# Altium footprint library DT.PcbLib: 10 footprints
Each footprint in its own frame and in the unit in brackets; x right, y up, seen from the top. Pads: shape width x height; smd on the part's side, far side on the other; paste and mask are expansions set on the pad; w line width, h text height; cw(c..) or ccw(c..) is an arc to the next point about the centre after c.
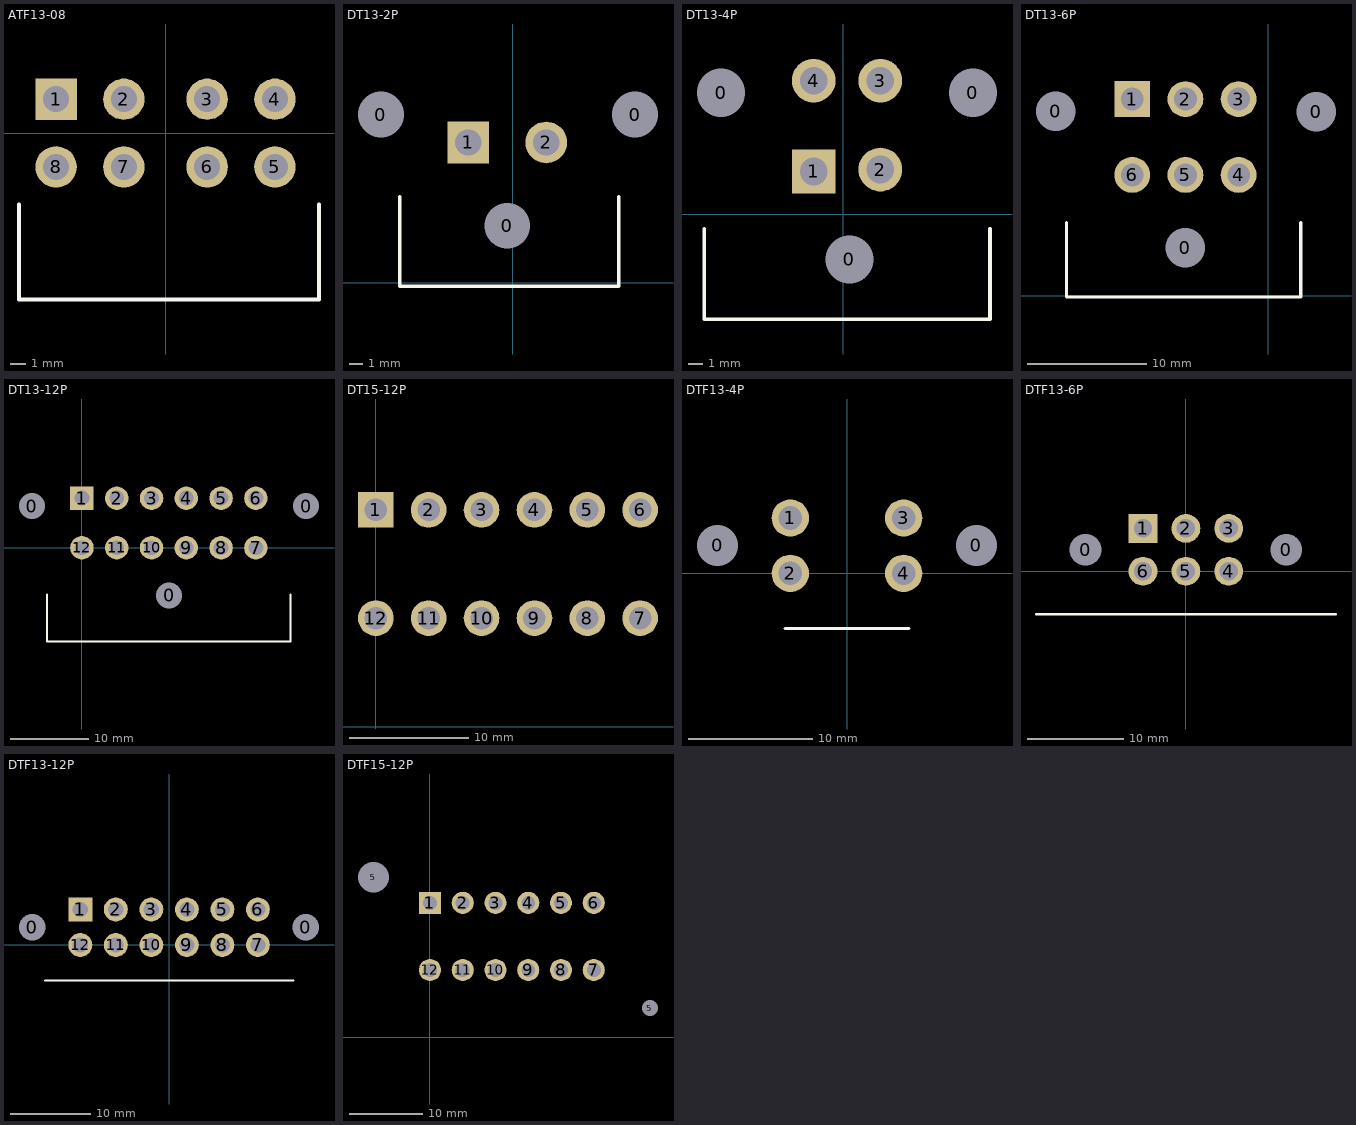
[diagram p0: the footprints below, top view; thin cyan lines are the x and y axes]

## ATF13-08 [mm]
pads (8):
  rect 2.7x2.7 hole 1.7: 1(-7.145,2.21)
  round 2.7 hole 1.7: 2(-2.725,2.21) 3(2.725,2.21) 4(7.145,2.21) 5(7.145,-2.21) 6(2.725,-2.21) 7(-2.725,-2.21) 8(-7.145,-2.21)
Top Overlay:
  lines w0.254: -9.571,-4.671 -9.571,-10.871 10.029,-10.871 10.029,-4.671
3D body "ATF13-08PB-BM13.stp": height 23.66, standoff -2.89, extent -18.375,-25.4 18.375,4.5

## DT13-2P [mm]
pads (5):
  round 3 hole 3.3 unplated: 0(-9.5,12.1) 0(-0.4,4.1) 0(8.8,12.1)
  rect 3x3 hole 1.9: 1(-3.2,10.1)
  round 3 hole 1.9: 2(2.4,10.1)
Top Overlay:
  lines w0.254: -8.128,6.2 -8.128,-0.254 7.62,-0.254 7.62,6.2
3D body "c-dt13-2p-99-3d.stp": height 28.72, standoff -2.04, extent -18.053,-19.968 17.253,16.1

## DT13-4P [mm]
pads (7):
  round 3 hole 3.3 unplated: 0(-8.382,8.318) 0(0.416,-3.112) 0(8.89,8.318)
  rect 3x3 hole 1.9: 1(-2.032,2.921)
  round 3 hole 1.9: 2(2.54,3.048) 3(2.54,9.144) 4(-2.032,9.144)
Top Overlay:
  lines w0.254: -9.534,-1.012 -9.534,-7.212 10.066,-7.212 10.066,-1.012
3D body "c-dt13-4p-c-3d.stp": height 35.63, standoff -2.96, extent -20.417,-27.178 17.937,12.319

## DT13-6P [mm]
pads (9):
  round 3 hole 3.3 unplated: 0(-17.805,15.43) 0(-6.95,4) 0(4,15.4)
  rect 3x3 hole 1.9: 1(-11.4,16.45)
  round 3 hole 1.9: 2(-6.95,16.45) 3(-2.5,16.45) 4(-2.5,10.1) 5(-6.95,10.1) 6(-11.4,10.1)
Top Overlay:
  lines w0.254: -16.9,6.1 -16.9,-0.1 2.7,-0.1 2.7,6.1
3D body "c-dt13-6p-99-3d.stp": height 35.63, standoff -2.96, extent -29.899,-19.897 12.899,19.6

## DT13-12P [mm]
height 35
pads (15):
  round 3 hole 3.3 unplated: 0(-6.405,5.33) 0(11.135,-6.1) 0(28.675,5.33)
  rect 3x3 hole 1.9: 1(0,6.35)
  round 3 hole 1.9: 2(4.45,6.35) 3(8.9,6.35) 4(13.35,6.35) 5(17.8,6.35) 6(22.25,6.35) 7(22.25,0) 8(17.8,0) 9(13.35,0) 10(8.9,0) 11(4.45,0) 12(0,0)
Top Overlay:
  lines w0.254: -4.45,-6 -4.45,-12 26.7,-12 26.7,-6
3D body "c-dt13-12pa-b016-99-3d.stp": height 35.63, standoff -2.96, extent -18.604,-34.696 40.604,9.5

## DT15-12P [mm]
height 35
pads (12):
  rect 3x3 hole 1.9: 1(0,18.24)
  round 3 hole 1.9: 2(4.45,18.24) 3(8.9,18.24) 4(13.35,18.24) 5(17.8,18.24) 6(22.25,18.24) 7(22.25,9.12) 8(17.8,9.12) 9(13.35,9.12) 10(8.9,9.12) 11(4.45,9.12) 12(0,9.12)
3D body "c-dt15-12pa-b016-99-3d.stp": height 36, standoff -1.92, extent -18.504,-3.927 40.704,31.328

## DTF13-4P [mm]
pads (6):
  round 3 hole 3.3 unplated: 0(-10.415,2.25) 0(10.415,2.25)
  round 3 hole 1.9: 1(-4.56,4.45) 2(-4.56,0) 3(4.56,4.45) 4(4.56,0)
Top Overlay:
  lines w0.254: -5,-4.45 5,-4.45
3D body "c-dtf13-4p-a-3d.stp": height 23.65, standoff -2.92, extent -13.68,-25.732 13.498,7.732

## DTF13-6P [mm]
pads (8):
  round 3 hole 3.3 unplated: 0(-10.41,2.225) 0(10.41,2.225)
  rect 3x3 hole 1.9: 1(-4.45,4.45)
  round 3 hole 1.9: 2(0,4.45) 3(4.45,4.45) 4(4.45,0) 5(0,0) 6(-4.45,0)
Top Overlay:
  lines w0.254: -15.564,-4.45 15.586,-4.45
3D body "c-dtf13-6p-99-3d.stp": height 22.67, standoff -2.72, extent -14.1,-22.995 13.611,6.595

## DTF13-12P [mm]
pads (14):
  round 3 hole 3.3 unplated: 0(-17.145,2.22) 0(17.145,2.22)
  rect 3x3 hole 1.9: 1(-11.114,4.45)
  round 3 hole 1.9: 2(-6.664,4.45) 3(-2.214,4.45) 4(2.236,4.45) 5(6.686,4.45) 6(11.136,4.45) 7(11.136,0) 8(6.686,0) 9(2.236,0) 10(-2.214,0) 11(-6.664,0) 12(-11.114,0)
Top Overlay:
  lines w0.254: -15.564,-4.45 15.586,-4.45
3D body "c-dtf13-12pa-99-3d.stp": height 23.13, standoff -2.72, extent -20.79,-27.74 20.79,6.55

## DTF15-12P [mm]
height 35
pads (14):
  rect 3x3 hole 1.9: 1(0,18.24)
  round 3 hole 1.9: 2(4.45,18.24) 3(8.9,18.24) 4(13.35,18.24) 5(17.8,18.24) 6(22.25,18.24) 7(22.25,9.12) 8(17.8,9.12) 9(13.35,9.12) 10(8.9,9.12) 11(4.45,9.12) 12(0,9.12)
  round 1.524 hole 4.2 unplated mask+0: 5(-7.671,21.717)
  round 1.524 hole 2.2 unplated mask+0: 5(29.87,3.937)
3D body "c-dtf15-12pa-99-3d.stp": height 35, standoff -5.06, extent -10.871,2.625 33.071,24.875